# EAGLE library part PCA9517 (library nxp)
I2C BUS REPEATER
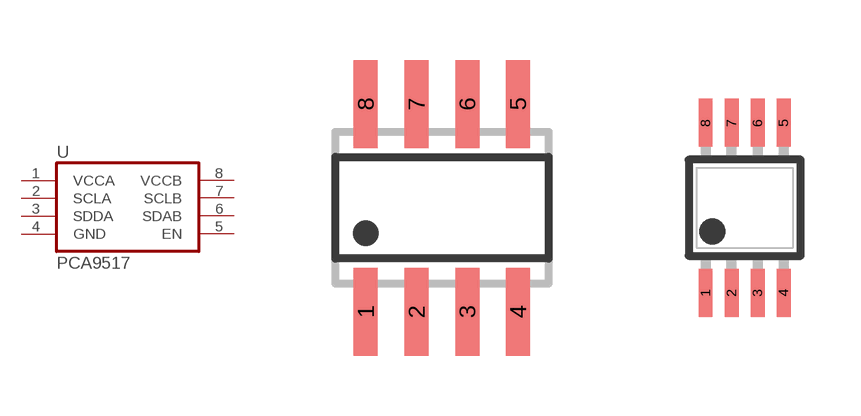
[diagram p11: symbol with the pads of SO08; footprints SO08, TSSOP8]

Designator prefix U

## PCA9517D  [SO08]
1  VCCA  pwr
2  SCLA
3  SDDA
4  GND  pwr
5  EN  in
6  SDAB
7  SCLB
8  VCCB  pwr

## PCA9517DP  [TSSOP8]
Pads as for SO08

## Footprint SO08 (pad centres in mm)
SMALL OUTLINE INTEGRATED CIRCUIT body 3.9 mm/JEDEC MS-012AA
smd 0.6 x 2.2: 1 -1.905,-2.6; 2 -0.635,-2.6; 3 0.635,-2.6; 4 1.905,-2.6; 5 1.905,2.6; 6 0.635,2.6; 7 -0.635,2.6; 8 -1.905,2.6

## Footprint TSSOP8 (pad centres in mm)
Thin Shrink Small Outline Plastic 8 body width 3mm, SOT505-1
smd 0.35 x 1.2: 1 -0.975,-2.125; 2 -0.325,-2.125; 3 0.325,-2.125; 4 0.975,-2.125; 5 0.975,2.125; 6 0.325,2.125; 7 -0.325,2.125; 8 -0.975,2.125